# Altium schematic symbol library DI_SCHOTTKY_2_CC.SchLib: 1 symbol
Pins are listed as number, name and electrical type; pins without a type are passive.

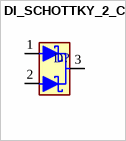
[diagram p0: symbol DI_SCHOTTKY_2_CC]

## DI_SCHOTTKY_2_CC
designator D?
Dual Schottky Barrier Diode Common Cathode
pins: 1 A1, 2 A2, 3 C